# EAGLE library part 1-2199298-2 (library 1-2199298-2)
TE CONNECTIVITY - 1-2199298-2 - IC SOCKET, DIP, 8POS, TH Source: Datasheet <https://componentsearchengine.com/Datasheets/2/1-2199298-2.pdf>
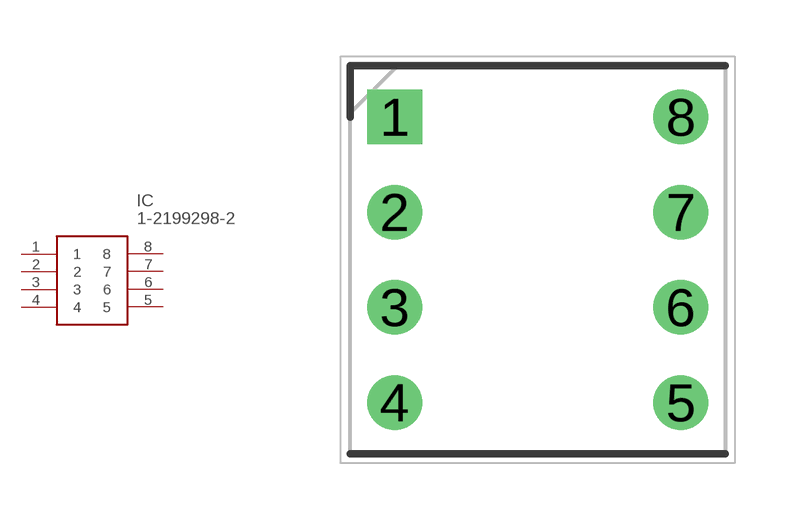
[diagram p0: symbol with the pads of DIPS762W70P254L1016H510Q8N; footprint DIPS762W70P254L1016H510Q8N]

Designator prefix IC

## 1-2199298-2 (Description: TE CONNECTIVITY - 1-2199298-2 - IC SOCKET, DIP, 8POS, TH; Height: 5.1mm; Manufacturer_Name: TE Connectivity; Manufacturer_Part_Number: 1-2199298-2; Mouser_Part_Number: 571-1-2199298-2; Mouser_Price-Stock: https://www.mouser.co.uk/ProductDetail/TE-Connectivity/1-2199298-2?qs=fK8dlpkaUMtEKa4wabwOXQ%3D%3D)  [DIPS762W70P254L1016H510Q8N]
1  1
2  2
3  3
4  4
5  5
6  6
7  7
8  8

## Footprint DIPS762W70P254L1016H510Q8N (pad centres in mm)
1-2199298-2-1
drill 0.95 pad 1.425 square: 1 0,0
drill 0.95 pad 1.425: 2 0,-2.54; 3 0,-5.08; 4 0,-7.62; 5 7.62,-7.62; 6 7.62,-5.08; 7 7.62,-2.54; 8 7.62,0